# Altium schematic symbol library investigator_regulator.SchLib: 3 symbols
Pins are listed as number, name and electrical type; pins without a type are passive.

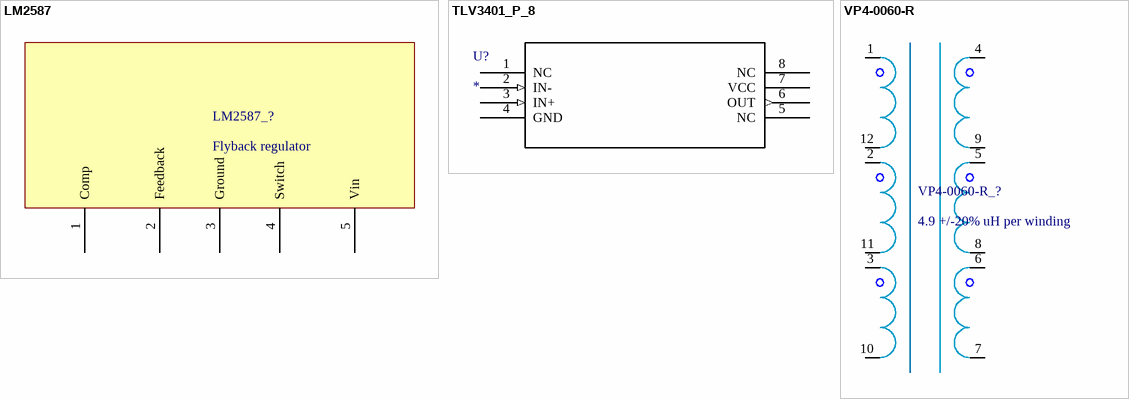
[diagram p0: symbols LM2587 to VP4-0060-R]

## LM2587
designator LM2587_?, comment Flyback regulator
footprint TS5B
pins: 1 Comp, 2 Feedback, 3 Ground, 4 Switch, 5 Vin

## TLV3401_P_8
designator U?
Imported; Manufacturer_Part_Number: tlv3401_p_8; GENERIC_PART_NUMBER: TLV3401; Vendor: Texas Instruments; PACKAGE_DESIGNATOR: P; PIN_COUNT: 8; FAMILY_NAME: COMPARATOR; INDUSTRY_STD_PKG_TYPE: PDIP; Datasheet URL: http://www.ti.com/lit/gpn/TLV3401; Manufacturer: Texas Instruments; RefDes: RefDes; Type: DEV; Value: Value
footprint P8
pins: 1 NC, 2 IN- (in), 3 IN+ (in), 4 GND (power), 5 NC, 6 OUT (out), 7 VCC (power), 8 NC

## VP4-0060-R
designator VP4-0060-R_?, comment 4.9 +/-20% uH per winding
footprint TRANSFORMER_SOP12
pins: 1 "No internal connection", 2 "No internal connection", 3 "No internal connection", 4 "No internal connection", 5 "No internal connection", 6 "No internal connection", 7 "No internal connection", 8 "No internal connection", 9 "No internal connection", 10 "No internal connection", 11 "No internal connection", 12 "No internal connection"